# Altium footprint library 9B-16.000MEEJ-B.PcbLib: 1 footprints
Each footprint in its own frame and in the unit in brackets; x right, y up, seen from the top. Pads: shape width x height; smd on the part's side, far side on the other; paste and mask are expansions set on the pad; w line width, h text height; cw(c..) or ccw(c..) is an arc to the next point about the centre after c.
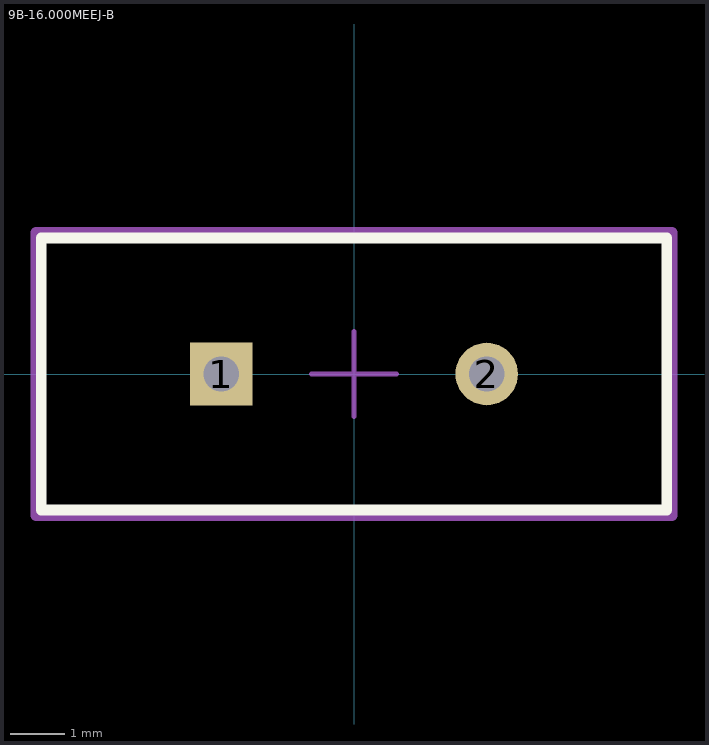
[diagram p0: the footprint, top view; thin cyan lines are the x and y axes]

## 9B-16.000MEEJ-B [mm]
pads (2):
  rect 1.15x1.15 hole 0.65 paste-1000 mask+0: 1(-2.44,0)
  round 1.15 hole 0.65 paste-1000 mask+0: 2(2.44,0)
Top Overlay:
  lines w0.2: -5.75,-2.5 -5.75,2.5 5.75,2.5 5.75,-2.5 -5.75,-2.5
Mechanical 10:
  lines w0.2: -5.85,-2.6 -5.85,2.6 5.85,2.6 5.85,-2.6 -5.85,-2.6
Mechanical 12:
  lines w0.15: -5.75,-2.5 -5.75,2.5 5.75,2.5 5.75,-2.5 -5.75,-2.5
Mechanical 15:
  lines w0.1: -0.78,0 0.78,0 ; 0,-0.78 0,0.78
  lines w0.2: -5.85,-2.6 -5.85,2.6 5.85,2.6 5.85,-2.6 -5.85,-2.6
3D body "9B-16.000MEEJ-B.STEP": height 3.79, standoff -5.21, extent -5.75,-2.502 5.75,2.498